# Altium footprint library LED_SMD_Mini_Vishay.PcbLib: 1 footprints
Each footprint in its own frame and in the unit in brackets; x right, y up, seen from the top. Pads: shape width x height; smd on the part's side, far side on the other; paste and mask are expansions set on the pad; w line width, h text height; cw(c..) or ccw(c..) is an arc to the next point about the centre after c.
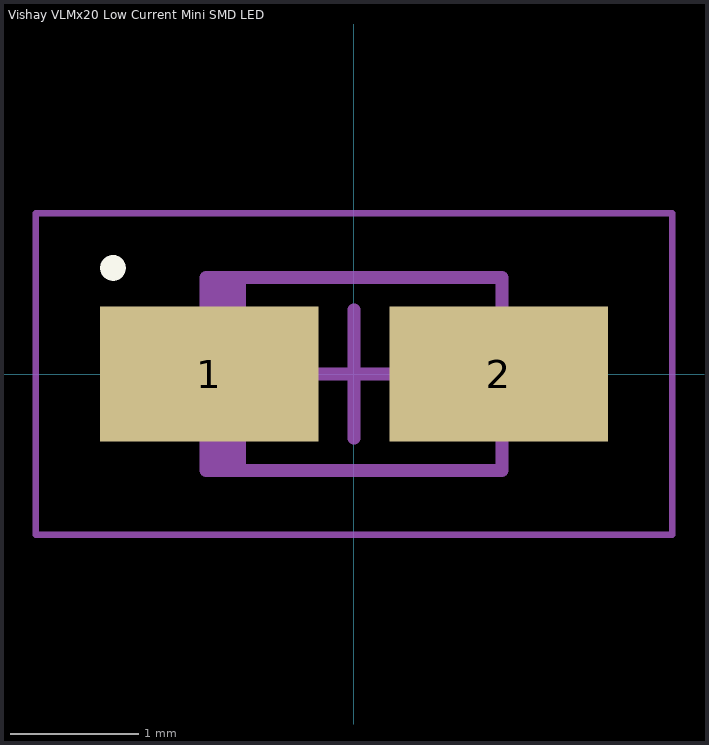
[diagram p0: the footprint, top view; thin cyan lines are the x and y axes]

## Vishay VLMx20 Low Current Mini SMD LED [mm] "Molded Diode, 2-Leads, Body 2.20x1.40mm, IPC Low Density"
height 1.4
pads (2):
  rect 1.7x1.05 smd: 1(-1.125,0) 2(1.125,0)
Top Overlay:
  circle w0.1: c-1.875,0.825 r0.05
Mechanical 13:
  rectangle: -1.15,-0.75 -0.841,0.75
  lines w0.1: -1.15,-0.75 1.15,-0.75 1.15,0.75 -1.15,0.75 -1.15,-0.75
Mechanical 15:
  lines w0.05: -2.475,-1.25 2.475,-1.25 2.475,1.25 -2.475,1.25 -2.475,-1.25
  lines w0.1: -0.5,0 0.5,0 ; 0,-0.5 0,0.5
3D body "Vishay VLMx20 Low Current Mini SMD LED.step": height 1.4, standoff 0, extent -1.37,-0.75 1.37,0.75